# EAGLE library part 87438-14 (library con-molex_sgq)
Wire-to-Board 1.50mm (.059") Pitch Header - Right Angle, SMT, Shrouded Source: http://www.molex.com/product/micro/87438.html
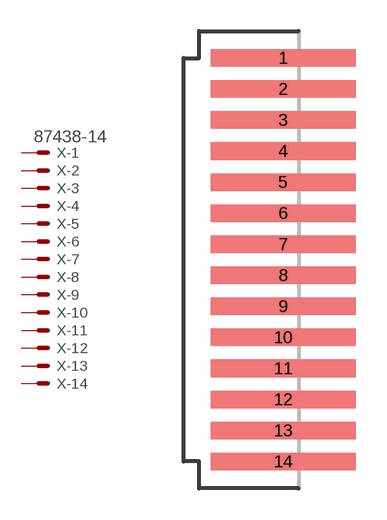
[diagram p219: symbol with the pads of 87438-14; footprint 87438-14]

Designator prefix X; gates -1=MV -2=M -3=M -4=M -5=M -6=M -7=M -8=M -9=M -10=M -11=M -12=M -13=M -14=M

## 87438-14 (MF: MOLEX; MPN: 87438-1443; OC_FARNELL: unknown; OC_NEWARK: 94M1107)  [87438-14]
1  -1:S  pas
2  -2:S  pas
3  -3:S  pas
4  -4:S  pas
5  -5:S  pas
6  -6:S  pas
7  -7:S  pas
8  -8:S  pas
9  -9:S  pas
10  -10:S  pas
11  -11:S  pas
12  -12:S  pas
13  -13:S  pas
14  -14:S  pas

## Footprint 87438-14 (pad centres in mm)
1.50mm Pitch Pico-SPOX™ Wire-to-Board Header, Surface Mount, Right Angle, Shrouded, Nylon, 14 Circuits, Embossed Tape on Reel, Beige Datasheet <http://www.molex.com/pdm_docs/sd/874381443_sd.pdf>
smd 7 x 0.85: 1 0,9.75; 2 0,8.25; 3 0,6.75; 4 0,5.25; 5 0,3.75; 6 0,2.25; 7 0,0.75; 8 0,-0.75; 9 0,-2.25; 10 0,-3.75; 11 0,-5.25; 12 0,-6.75; 13 0,-8.25; 14 0,-9.75